# EAGLE library part DPDT-TOGGLE (library StdBxLibrary_BETA_)
BETA! SB0015 - SWITCH, TOGGLE, DPDT, 120V, 3A, PCB pins, available in on-on and on-off-on
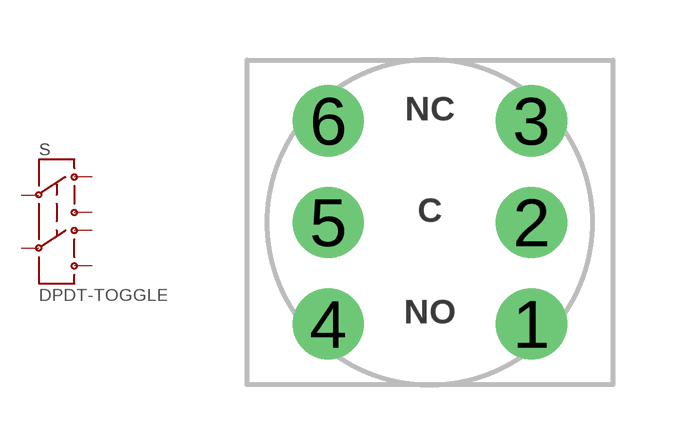
[diagram p2: symbol with the pads of TOGGLE-6TERM-PIN; footprint TOGGLE-6TERM-PIN]

Designator prefix S

## DPDT-TOGGLE  [TOGGLE-6TERM-PIN]
1  1NO
2  1C
3  1NC
4  2NO
5  2C
6  2NC

## Footprint TOGGLE-6TERM-PIN (pad centres in mm)
Toggle Switch, 6 terminal
drill 1.1 pad 1.778: 1 2.54,-2.54; 2 2.54,0; 3 2.54,2.54; 4 -2.54,-2.54; 5 -2.54,0; 6 -2.54,2.54